# Altium footprint library TI_National_Semiconductor_LM1117DTX_1_8_NOPB_0.PcbLib: 1 footprints
Each footprint in its own frame and in the unit in brackets; x right, y up, seen from the top. Pads: shape width x height; smd on the part's side, far side on the other; paste and mask are expansions set on the pad; w line width, h text height; cw(c..) or ccw(c..) is an arc to the next point about the centre after c.
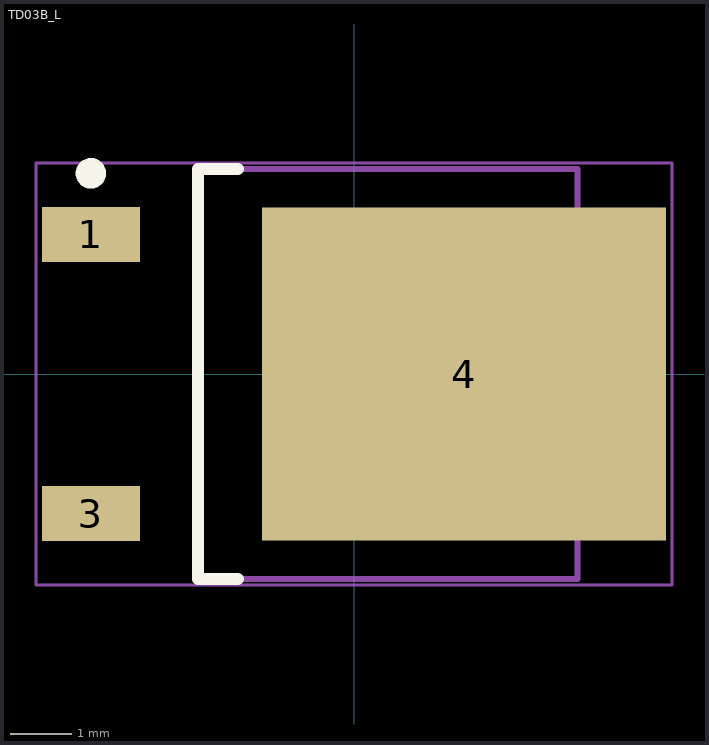
[diagram p0: the footprint, top view; thin cyan lines are the x and y axes]

## TD03B_L [mm] "D-PAK, 4-Leads, Body 6.1x6.6mm, Pitch 2.29mm, Lead Span 9.7mm, IPC High Density"
height 2.38
pads (3):
  rect 1.6x0.9 smd: 1(-4.3,2.28) 3(-4.3,-2.28)
  rect 6.6x5.45 smd: 4(1.8,0)
Top Overlay:
  circle w0.25: c-4.3,3.28 r0.125
  lines w0.2: -1.9,-3.35 -2.55,-3.35 -2.55,3.35 -1.9,3.35
Mechanical 13:
  lines w0.1: -2.55,-3.35 3.65,-3.35 3.65,3.35 -2.55,3.35 -2.55,-3.35
Mechanical 15:
  lines w0.05: -5.2,-3.45 5.2,-3.45 5.2,3.45 -5.2,3.45 -5.2,-3.45
  lines w0.1: -0.5,0 0.5,0 ; 0,-0.5 0,0.5
3D body: height 2.38, standoff 0.17, extent -2.55,-3.35 3.65,3.35